# EAGLE library part N2520-6V0C-RB-WE (library 3M_By_element14_Batch_1)
Header
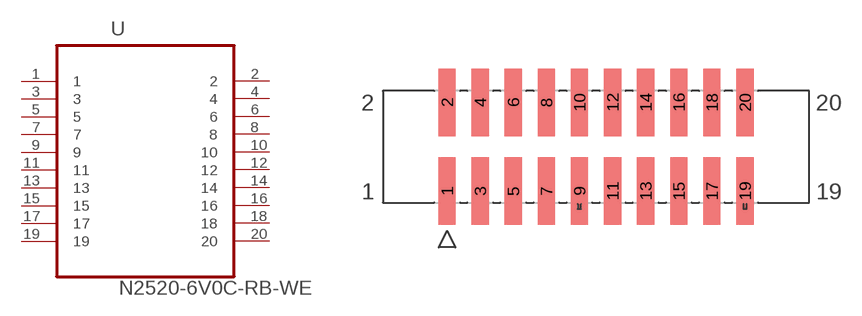
[diagram p85: symbol with the pads of 3M_N2520-6V0C-RB-WE; footprint 3M_N2520-6V0C-RB-WE]

Designator prefix U

## N2520-6V0C-RB-WE (MPN: N2520-6V0C-RB-WE; OC_FARNELL: 1428504; OC_NEWARK: 34P5344; PACKAGE: Header-20Pin; SUPPLIER: 3M)  [3M_N2520-6V0C-RB-WE]
1  1  pas
2  2  pas
3  3  pas
4  4  pas
5  5  pas
6  6  pas
7  7  pas
8  8  pas
9  9  pas
10  10  pas
11  11  pas
12  12  pas
13  13  pas
14  14  pas
15  15  pas
16  16  pas
17  17  pas
18  18  pas
19  19  pas
20  20  pas

## Footprint 3M_N2520-6V0C-RB-WE (pad centres in mm)
smd 1.321 x 5.182: 1 -11.43,-3.404; 2 -11.43,3.404; 3 -8.89,-3.404; 4 -8.89,3.404; 5 -6.35,-3.404; 6 -6.35,3.404; 7 -3.81,-3.404; 8 -3.81,3.404; 9 -1.27,-3.404; 10 -1.27,3.404; 11 1.27,-3.404; 12 1.27,3.404; 13 3.81,-3.404; 14 3.81,3.404; 15 6.35,-3.404; 16 6.35,3.404; 17 8.89,-3.404; 18 8.89,3.404; 19 11.43,-3.404; 20 11.43,3.404